# Altium schematic symbol library Radxa ROCK3 CM.SchLib: 1 symbol
Pins are listed as number, name and electrical type; pins without a type are passive.

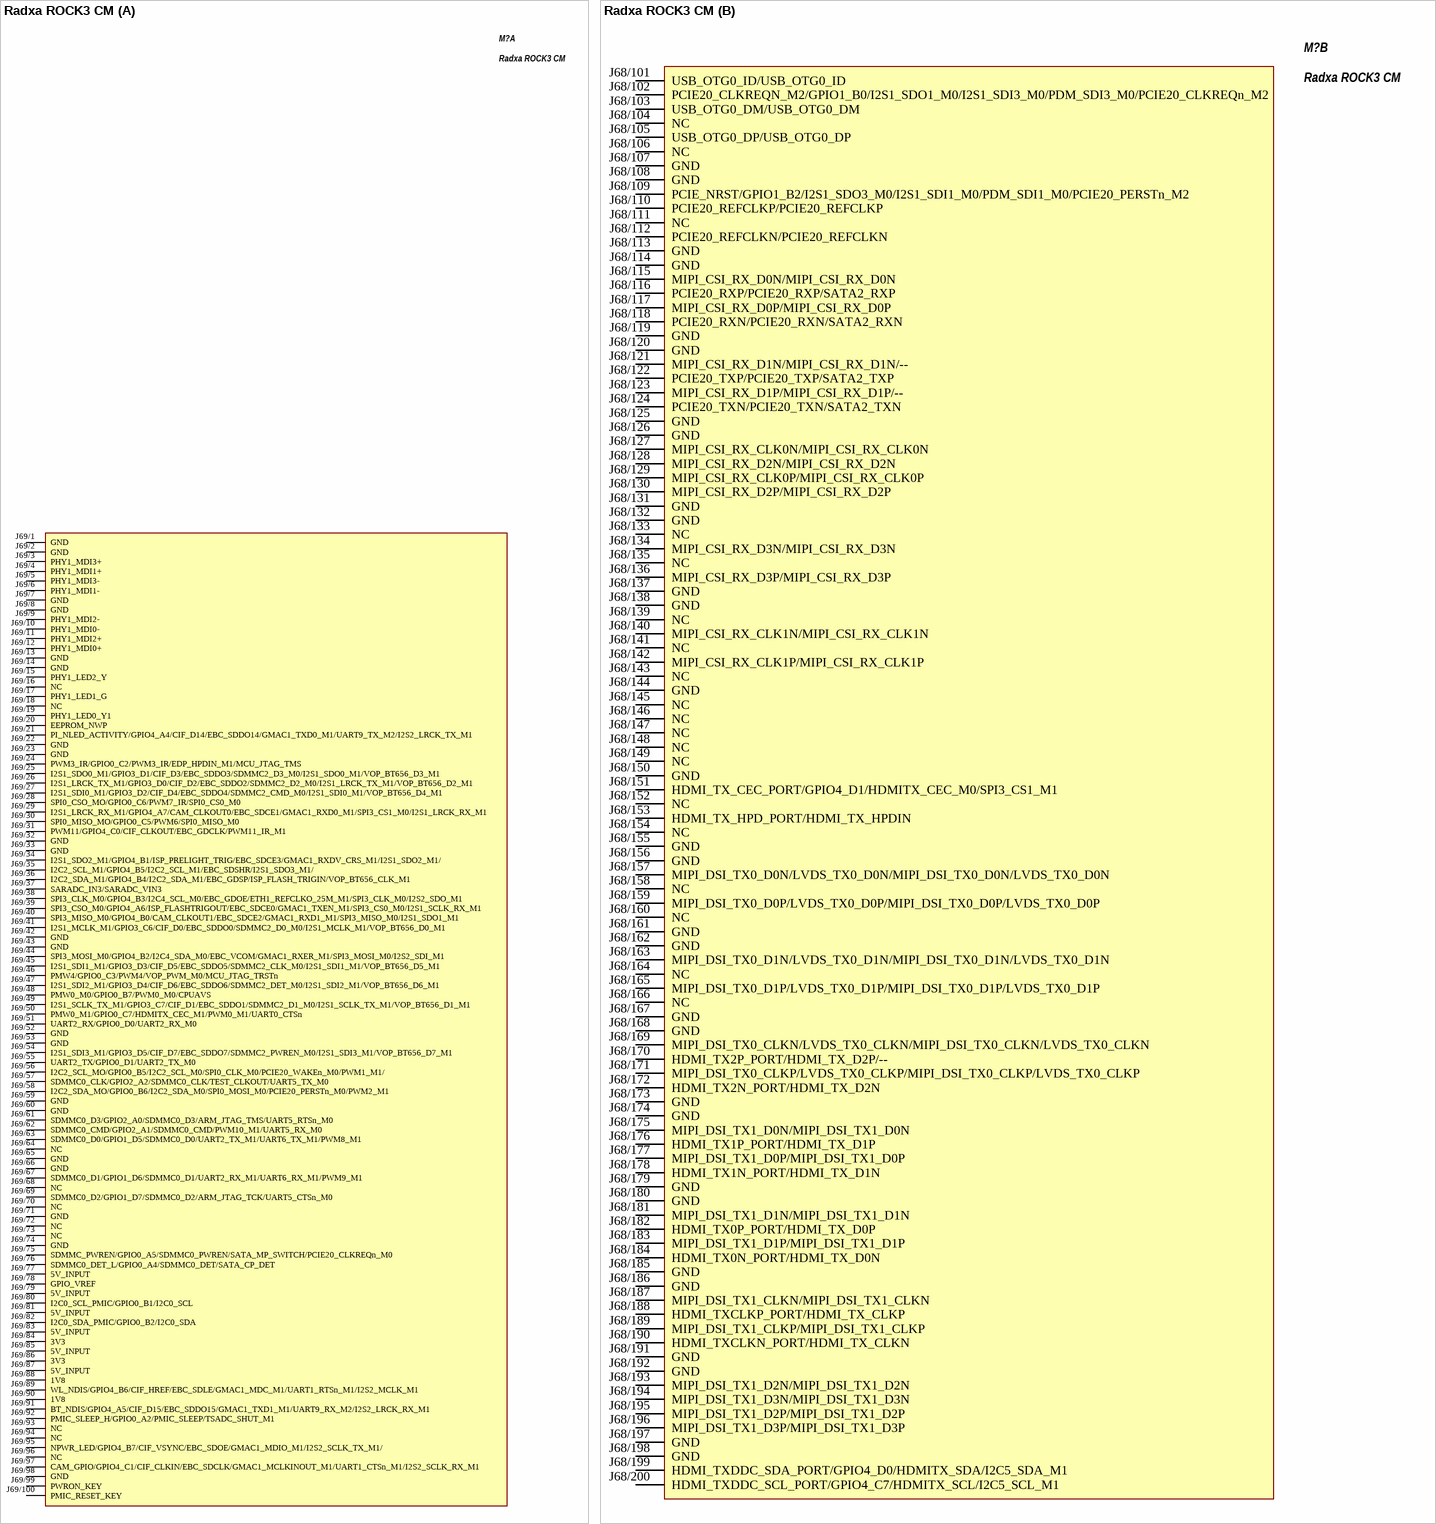
[diagram p0: symbol Radxa ROCK3 CM]

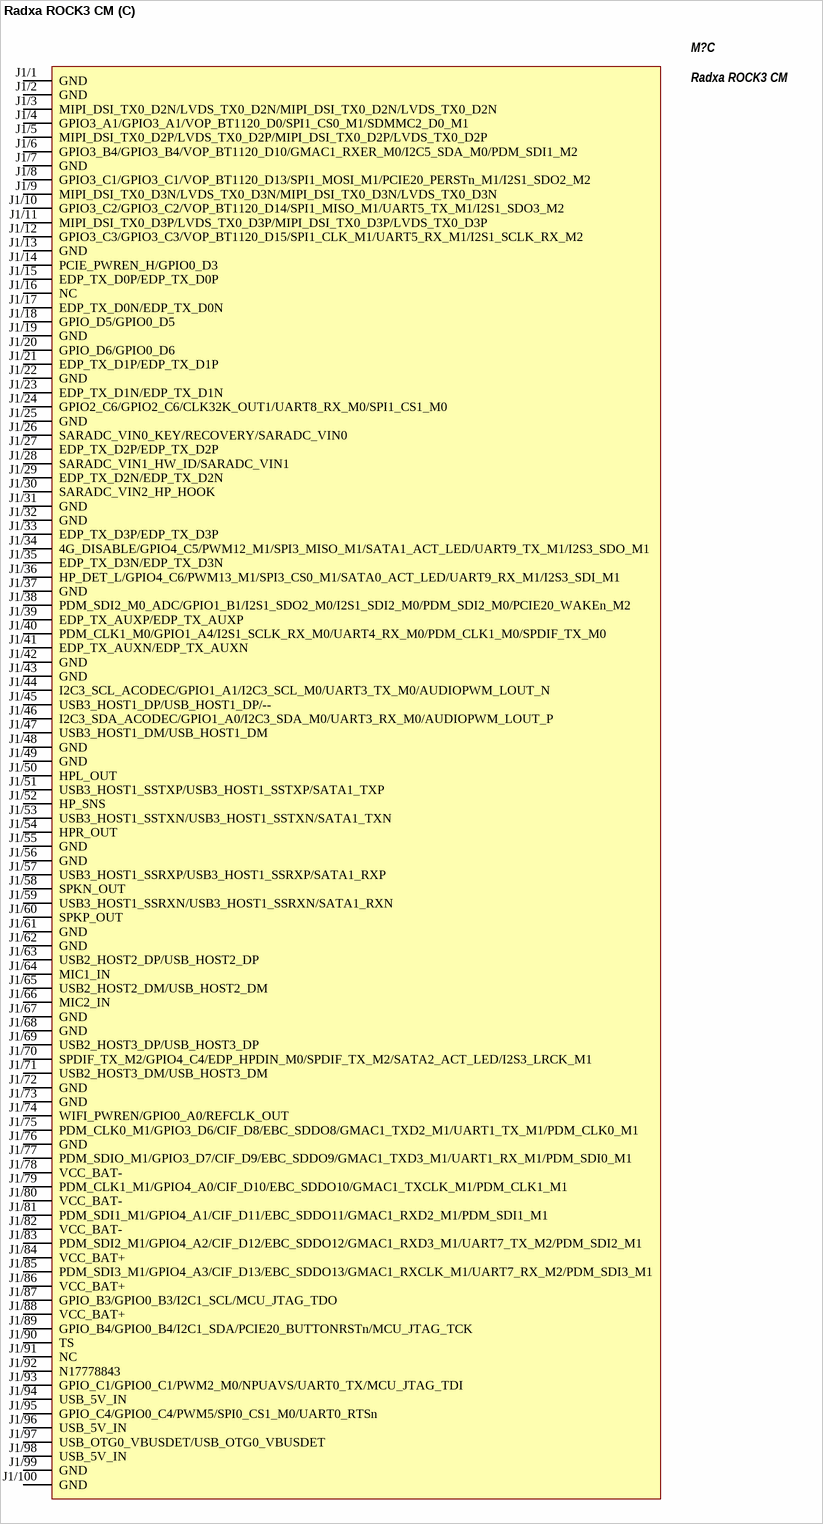
[diagram p1: symbol Radxa ROCK3 CM]

## Radxa ROCK3 CM
designator M?  (mechanical)
part A pins: J69/1 GND, J69/2 GND, J69/3 PHY1_MDI3+, J69/4 PHY1_MDI1+, J69/5 PHY1_MDI3-, J69/6 PHY1_MDI1-, J69/7 GND, J69/8 GND, J69/9 PHY1_MDI2-, J69/10 PHY1_MDI0-, J69/11 PHY1_MDI2+, J69/12 PHY1_MDI0+, J69/13 GND, J69/14 GND, J69/15 PHY1_LED2_Y, J69/16 NC, J69/17 PHY1_LED1_G, J69/18 NC, J69/19 PHY1_LED0_Y1, J69/20 EEPROM_NWP, J69/21 PI_NLED_ACTIVITY/GPIO4_A4/CIF_D14/EBC_SDDO14/GMAC1_TXD0_M1/UART9_TX_M2/I2S2_LRCK_TX_M1, J69/22 GND, J69/23 GND, J69/24 PWM3_IR/GPIO0_C2/PWM3_IR/EDP_HPDIN_M1/MCU_JTAG_TMS, J69/25 I2S1_SDO0_M1/GPIO3_D1/CIF_D3/EBC_SDDO3/SDMMC2_D3_M0/I2S1_SDO0_M1/VOP_BT656_D3_M1, J69/26 I2S1_LRCK_TX_M1/GPIO3_D0/CIF_D2/EBC_SDDO2/SDMMC2_D2_M0/I2S1_LRCK_TX_M1/VOP_BT656_D2_M1, J69/27 I2S1_SDI0_M1/GPIO3_D2/CIF_D4/EBC_SDDO4/SDMMC2_CMD_M0/I2S1_SDI0_M1/VOP_BT656_D4_M1, J69/28 SPI0_CSO_MO/GPIO0_C6/PWM7_IR/SPI0_CS0_M0, J69/29 I2S1_LRCK_RX_M1/GPIO4_A7/CAM_CLKOUT0/EBC_SDCE1/GMAC1_RXD0_M1/SPI3_CS1_M0/I2S1_LRCK_RX_M1, J69/30 SPI0_MISO_MO/GPIO0_C5/PWM6/SPI0_MISO_M0, J69/31 PWM11/GPIO4_C0/CIF_CLKOUT/EBC_GDCLK/PWM11_IR_M1, J69/32 GND, J69/33 GND, J69/34 I2S1_SDO2_M1/GPIO4_B1/ISP_PRELIGHT_TRIG/EBC_SDCE3/GMAC1_RXDV_CRS_M1/I2S1_SDO2_M1/, J69/35 I2C2_SCL_M1/GPIO4_B5/I2C2_SCL_M1/EBC_SDSHR/I2S1_SDO3_M1/, J69/36 I2C2_SDA_M1/GPIO4_B4/I2C2_SDA_M1/EBC_GDSP/ISP_FLASH_TRIGIN/VOP_BT656_CLK_M1, J69/37 SARADC_IN3/SARADC_VIN3, J69/38 SPI3_CLK_M0/GPIO4_B3/I2C4_SCL_M0/EBC_GDOE/ETH1_REFCLKO_25M_M1/SPI3_CLK_M0/I2S2_SDO_M1, J69/39 SPI3_CSO_M0/GPIO4_A6/ISP_FLASHTRIGOUT/EBC_SDCE0/GMAC1_TXEN_M1/SPI3_CS0_M0/I2S1_SCLK_RX_M1, J69/40 SPI3_MISO_M0/GPIO4_B0/CAM_CLKOUT1/EBC_SDCE2/GMAC1_RXD1_M1/SPI3_MISO_M0/I2S1_SDO1_M1, J69/41 I2S1_MCLK_M1/GPIO3_C6/CIF_D0/EBC_SDDO0/SDMMC2_D0_M0/I2S1_MCLK_M1/VOP_BT656_D0_M1, J69/42 GND, J69/43 GND, J69/44 SPI3_MOSI_M0/GPIO4_B2/I2C4_SDA_M0/EBC_VCOM/GMAC1_RXER_M1/SPI3_MOSI_M0/I2S2_SDI_M1, J69/45 I2S1_SDI1_M1/GPIO3_D3/CIF_D5/EBC_SDDO5/SDMMC2_CLK_M0/I2S1_SDI1_M1/VOP_BT656_D5_M1, J69/46 PMW4/GPIO0_C3/PWM4/VOP_PWM_M0/MCU_JTAG_TRSTn, J69/47 I2S1_SDI2_M1/GPIO3_D4/CIF_D6/EBC_SDDO6/SDMMC2_DET_M0/I2S1_SDI2_M1/VOP_BT656_D6_M1, J69/48 PMW0_M0/GPIO0_B7/PWM0_M0/CPUAVS, J69/49 I2S1_SCLK_TX_M1/GPIO3_C7/CIF_D1/EBC_SDDO1/SDMMC2_D1_M0/I2S1_SCLK_TX_M1/VOP_BT656_D1_M1, J69/50 PMW0_M1/GPIO0_C7/HDMITX_CEC_M1/PWM0_M1/UART0_CTSn, J69/51 UART2_RX/GPIO0_D0/UART2_RX_M0, J69/52 GND, J69/53 GND, J69/54 I2S1_SDI3_M1/GPIO3_D5/CIF_D7/EBC_SDDO7/SDMMC2_PWREN_M0/I2S1_SDI3_M1/VOP_BT656_D7_M1, J69/55 UART2_TX/GPIO0_D1/UART2_TX_M0, J69/56 I2C2_SCL_MO/GPIO0_B5/I2C2_SCL_M0/SPI0_CLK_M0/PCIE20_WAKEn_M0/PWM1_M1/, J69/57 SDMMC0_CLK/GPIO2_A2/SDMMC0_CLK/TEST_CLKOUT/UART5_TX_M0, J69/58 I2C2_SDA_MO/GPIO0_B6/I2C2_SDA_M0/SPI0_MOSI_M0/PCIE20_PERSTn_M0/PWM2_M1, J69/59 GND, J69/60 GND, J69/61 SDMMC0_D3/GPIO2_A0/SDMMC0_D3/ARM_JTAG_TMS/UART5_RTSn_M0, J69/62 SDMMC0_CMD/GPIO2_A1/SDMMC0_CMD/PWM10_M1/UART5_RX_M0, J69/63 SDMMC0_D0/GPIO1_D5/SDMMC0_D0/UART2_TX_M1/UART6_TX_M1/PWM8_M1, J69/64 NC, J69/65 GND, J69/66 GND, J69/67 SDMMC0_D1/GPIO1_D6/SDMMC0_D1/UART2_RX_M1/UART6_RX_M1/PWM9_M1, J69/68 NC, J69/69 SDMMC0_D2/GPIO1_D7/SDMMC0_D2/ARM_JTAG_TCK/UART5_CTSn_M0, J69/70 NC, J69/71 GND, J69/72 NC, J69/73 NC, J69/74 GND, J69/75 SDMMC_PWREN/GPIO0_A5/SDMMC0_PWREN/SATA_MP_SWITCH/PCIE20_CLKREQn_M0, J69/76 SDMMC0_DET_L/GPIO0_A4/SDMMC0_DET/SATA_CP_DET, J69/77 5V_INPUT, J69/78 GPIO_VREF, J69/79 5V_INPUT, J69/80 I2C0_SCL_PMIC/GPIO0_B1/I2C0_SCL, J69/81 5V_INPUT, J69/82 I2C0_SDA_PMIC/GPIO0_B2/I2C0_SDA, J69/83 5V_INPUT, J69/84 3V3, J69/85 5V_INPUT, J69/86 3V3, J69/87 5V_INPUT, J69/88 1V8, J69/89 WL_NDIS/GPIO4_B6/CIF_HREF/EBC_SDLE/GMAC1_MDC_M1/UART1_RTSn_M1/I2S2_MCLK_M1, J69/90 1V8, J69/91 BT_NDIS/GPIO4_A5/CIF_D15/EBC_SDDO15/GMAC1_TXD1_M1/UART9_RX_M2/I2S2_LRCK_RX_M1, J69/92 PMIC_SLEEP_H/GPIO0_A2/PMIC_SLEEP/TSADC_SHUT_M1, J69/93 NC, J69/94 NC, J69/95 NPWR_LED/GPIO4_B7/CIF_VSYNC/EBC_SDOE/GMAC1_MDIO_M1/I2S2_SCLK_TX_M1/, J69/96 NC, J69/97 CAM_GPIO/GPIO4_C1/CIF_CLKIN/EBC_SDCLK/GMAC1_MCLKINOUT_M1/UART1_CTSn_M1/I2S2_SCLK_RX_M1, J69/98 GND, J69/99 PWRON_KEY, J69/100 PMIC_RESET_KEY
part B pins: J68/101 USB_OTG0_ID/USB_OTG0_ID, J68/102 PCIE20_CLKREQN_M2/GPIO1_B0/I2S1_SDO1_M0/I2S1_SDI3_M0/PDM_SDI3_M0/PCIE20_CLKREQn_M2, J68/103 USB_OTG0_DM/USB_OTG0_DM, J68/104 NC, J68/105 USB_OTG0_DP/USB_OTG0_DP, J68/106 NC, J68/107 GND, J68/108 GND, J68/109 PCIE_NRST/GPIO1_B2/I2S1_SDO3_M0/I2S1_SDI1_M0/PDM_SDI1_M0/PCIE20_PERSTn_M2, J68/110 PCIE20_REFCLKP/PCIE20_REFCLKP, J68/111 NC, J68/112 PCIE20_REFCLKN/PCIE20_REFCLKN, J68/113 GND, J68/114 GND, J68/115 MIPI_CSI_RX_D0N/MIPI_CSI_RX_D0N, J68/116 PCIE20_RXP/PCIE20_RXP/SATA2_RXP, J68/117 MIPI_CSI_RX_D0P/MIPI_CSI_RX_D0P, J68/118 PCIE20_RXN/PCIE20_RXN/SATA2_RXN, J68/119 GND, J68/120 GND, J68/121 MIPI_CSI_RX_D1N/MIPI_CSI_RX_D1N/--, J68/122 PCIE20_TXP/PCIE20_TXP/SATA2_TXP, J68/123 MIPI_CSI_RX_D1P/MIPI_CSI_RX_D1P/--, J68/124 PCIE20_TXN/PCIE20_TXN/SATA2_TXN, J68/125 GND, J68/126 GND, J68/127 MIPI_CSI_RX_CLK0N/MIPI_CSI_RX_CLK0N, J68/128 MIPI_CSI_RX_D2N/MIPI_CSI_RX_D2N, J68/129 MIPI_CSI_RX_CLK0P/MIPI_CSI_RX_CLK0P, J68/130 MIPI_CSI_RX_D2P/MIPI_CSI_RX_D2P, J68/131 GND, J68/132 GND, J68/133 NC, J68/134 MIPI_CSI_RX_D3N/MIPI_CSI_RX_D3N, J68/135 NC, J68/136 MIPI_CSI_RX_D3P/MIPI_CSI_RX_D3P, J68/137 GND, J68/138 GND, J68/139 NC, J68/140 MIPI_CSI_RX_CLK1N/MIPI_CSI_RX_CLK1N, J68/141 NC, J68/142 MIPI_CSI_RX_CLK1P/MIPI_CSI_RX_CLK1P, J68/143 NC, J68/144 GND, J68/145 NC, J68/146 NC, J68/147 NC, J68/148 NC, J68/149 NC, J68/150 GND, J68/151 HDMI_TX_CEC_PORT/GPIO4_D1/HDMITX_CEC_M0/SPI3_CS1_M1, J68/152 NC, J68/153 HDMI_TX_HPD_PORT/HDMI_TX_HPDIN, J68/154 NC, J68/155 GND, J68/156 GND, J68/157 MIPI_DSI_TX0_D0N/LVDS_TX0_D0N/MIPI_DSI_TX0_D0N/LVDS_TX0_D0N, J68/158 NC, J68/159 MIPI_DSI_TX0_D0P/LVDS_TX0_D0P/MIPI_DSI_TX0_D0P/LVDS_TX0_D0P, J68/160 NC, J68/161 GND, J68/162 GND, J68/163 MIPI_DSI_TX0_D1N/LVDS_TX0_D1N/MIPI_DSI_TX0_D1N/LVDS_TX0_D1N, J68/164 NC, J68/165 MIPI_DSI_TX0_D1P/LVDS_TX0_D1P/MIPI_DSI_TX0_D1P/LVDS_TX0_D1P, J68/166 NC, J68/167 GND, J68/168 GND, J68/169 MIPI_DSI_TX0_CLKN/LVDS_TX0_CLKN/MIPI_DSI_TX0_CLKN/LVDS_TX0_CLKN, J68/170 HDMI_TX2P_PORT/HDMI_TX_D2P/--, J68/171 MIPI_DSI_TX0_CLKP/LVDS_TX0_CLKP/MIPI_DSI_TX0_CLKP/LVDS_TX0_CLKP, J68/172 HDMI_TX2N_PORT/HDMI_TX_D2N, J68/173 GND, J68/174 GND, J68/175 MIPI_DSI_TX1_D0N/MIPI_DSI_TX1_D0N, J68/176 HDMI_TX1P_PORT/HDMI_TX_D1P, J68/177 MIPI_DSI_TX1_D0P/MIPI_DSI_TX1_D0P, J68/178 HDMI_TX1N_PORT/HDMI_TX_D1N, J68/179 GND, J68/180 GND, J68/181 MIPI_DSI_TX1_D1N/MIPI_DSI_TX1_D1N, J68/182 HDMI_TX0P_PORT/HDMI_TX_D0P, J68/183 MIPI_DSI_TX1_D1P/MIPI_DSI_TX1_D1P, J68/184 HDMI_TX0N_PORT/HDMI_TX_D0N, J68/185 GND, J68/186 GND, J68/187 MIPI_DSI_TX1_CLKN/MIPI_DSI_TX1_CLKN, J68/188 HDMI_TXCLKP_PORT/HDMI_TX_CLKP, J68/189 MIPI_DSI_TX1_CLKP/MIPI_DSI_TX1_CLKP, J68/190 HDMI_TXCLKN_PORT/HDMI_TX_CLKN, J68/191 GND, J68/192 GND, J68/193 MIPI_DSI_TX1_D2N/MIPI_DSI_TX1_D2N, J68/194 MIPI_DSI_TX1_D3N/MIPI_DSI_TX1_D3N, J68/195 MIPI_DSI_TX1_D2P/MIPI_DSI_TX1_D2P, J68/196 MIPI_DSI_TX1_D3P/MIPI_DSI_TX1_D3P, J68/197 GND, J68/198 GND, J68/199 HDMI_TXDDC_SDA_PORT/GPIO4_D0/HDMITX_SDA/I2C5_SDA_M1, J68/200 HDMI_TXDDC_SCL_PORT/GPIO4_C7/HDMITX_SCL/I2C5_SCL_M1
part C pins: J1/1 GND, J1/2 GND, J1/3 MIPI_DSI_TX0_D2N/LVDS_TX0_D2N/MIPI_DSI_TX0_D2N/LVDS_TX0_D2N, J1/4 GPIO3_A1/GPIO3_A1/VOP_BT1120_D0/SPI1_CS0_M1/SDMMC2_D0_M1, J1/5 MIPI_DSI_TX0_D2P/LVDS_TX0_D2P/MIPI_DSI_TX0_D2P/LVDS_TX0_D2P, J1/6 GPIO3_B4/GPIO3_B4/VOP_BT1120_D10/GMAC1_RXER_M0/I2C5_SDA_M0/PDM_SDI1_M2, J1/7 GND, J1/8 GPIO3_C1/GPIO3_C1/VOP_BT1120_D13/SPI1_MOSI_M1/PCIE20_PERSTn_M1/I2S1_SDO2_M2, J1/9 MIPI_DSI_TX0_D3N/LVDS_TX0_D3N/MIPI_DSI_TX0_D3N/LVDS_TX0_D3N, J1/10 GPIO3_C2/GPIO3_C2/VOP_BT1120_D14/SPI1_MISO_M1/UART5_TX_M1/I2S1_SDO3_M2, J1/11 MIPI_DSI_TX0_D3P/LVDS_TX0_D3P/MIPI_DSI_TX0_D3P/LVDS_TX0_D3P, J1/12 GPIO3_C3/GPIO3_C3/VOP_BT1120_D15/SPI1_CLK_M1/UART5_RX_M1/I2S1_SCLK_RX_M2, J1/13 GND, J1/14 PCIE_PWREN_H/GPIO0_D3, J1/15 EDP_TX_D0P/EDP_TX_D0P, J1/16 NC, J1/17 EDP_TX_D0N/EDP_TX_D0N, J1/18 GPIO_D5/GPIO0_D5, J1/19 GND, J1/20 GPIO_D6/GPIO0_D6, J1/21 EDP_TX_D1P/EDP_TX_D1P, J1/22 GND, J1/23 EDP_TX_D1N/EDP_TX_D1N, J1/24 GPIO2_C6/GPIO2_C6/CLK32K_OUT1/UART8_RX_M0/SPI1_CS1_M0, J1/25 GND, J1/26 SARADC_VIN0_KEY/RECOVERY/SARADC_VIN0, J1/27 EDP_TX_D2P/EDP_TX_D2P, J1/28 SARADC_VIN1_HW_ID/SARADC_VIN1, J1/29 EDP_TX_D2N/EDP_TX_D2N, J1/30 SARADC_VIN2_HP_HOOK, J1/31 GND, J1/32 GND, J1/33 EDP_TX_D3P/EDP_TX_D3P, J1/34 4G_DISABLE/GPIO4_C5/PWM12_M1/SPI3_MISO_M1/SATA1_ACT_LED/UART9_TX_M1/I2S3_SDO_M1, J1/35 EDP_TX_D3N/EDP_TX_D3N, J1/36 HP_DET_L/GPIO4_C6/PWM13_M1/SPI3_CS0_M1/SATA0_ACT_LED/UART9_RX_M1/I2S3_SDI_M1, J1/37 GND, J1/38 PDM_SDI2_M0_ADC/GPIO1_B1/I2S1_SDO2_M0/I2S1_SDI2_M0/PDM_SDI2_M0/PCIE20_WAKEn_M2, J1/39 EDP_TX_AUXP/EDP_TX_AUXP, J1/40 PDM_CLK1_M0/GPIO1_A4/I2S1_SCLK_RX_M0/UART4_RX_M0/PDM_CLK1_M0/SPDIF_TX_M0, J1/41 EDP_TX_AUXN/EDP_TX_AUXN, J1/42 GND, J1/43 GND, J1/44 I2C3_SCL_ACODEC/GPIO1_A1/I2C3_SCL_M0/UART3_TX_M0/AUDIOPWM_LOUT_N, J1/45 USB3_HOST1_DP/USB_HOST1_DP/--, J1/46 I2C3_SDA_ACODEC/GPIO1_A0/I2C3_SDA_M0/UART3_RX_M0/AUDIOPWM_LOUT_P, J1/47 USB3_HOST1_DM/USB_HOST1_DM, J1/48 GND, J1/49 GND, J1/50 HPL_OUT, J1/51 USB3_HOST1_SSTXP/USB3_HOST1_SSTXP/SATA1_TXP, J1/52 HP_SNS, J1/53 USB3_HOST1_SSTXN/USB3_HOST1_SSTXN/SATA1_TXN, J1/54 HPR_OUT, J1/55 GND, J1/56 GND, J1/57 USB3_HOST1_SSRXP/USB3_HOST1_SSRXP/SATA1_RXP, J1/58 SPKN_OUT, J1/59 USB3_HOST1_SSRXN/USB3_HOST1_SSRXN/SATA1_RXN, J1/60 SPKP_OUT, J1/61 GND, J1/62 GND, J1/63 USB2_HOST2_DP/USB_HOST2_DP, J1/64 MIC1_IN, J1/65 USB2_HOST2_DM/USB_HOST2_DM, J1/66 MIC2_IN, J1/67 GND, J1/68 GND, J1/69 USB2_HOST3_DP/USB_HOST3_DP, J1/70 SPDIF_TX_M2/GPIO4_C4/EDP_HPDIN_M0/SPDIF_TX_M2/SATA2_ACT_LED/I2S3_LRCK_M1, J1/71 USB2_HOST3_DM/USB_HOST3_DM, J1/72 GND, J1/73 GND, J1/74 WIFI_PWREN/GPIO0_A0/REFCLK_OUT, J1/75 PDM_CLK0_M1/GPIO3_D6/CIF_D8/EBC_SDDO8/GMAC1_TXD2_M1/UART1_TX_M1/PDM_CLK0_M1, J1/76 GND, J1/77 PDM_SDIO_M1/GPIO3_D7/CIF_D9/EBC_SDDO9/GMAC1_TXD3_M1/UART1_RX_M1/PDM_SDI0_M1, J1/78 VCC_BAT-, J1/79 PDM_CLK1_M1/GPIO4_A0/CIF_D10/EBC_SDDO10/GMAC1_TXCLK_M1/PDM_CLK1_M1, J1/80 VCC_BAT-, J1/81 PDM_SDI1_M1/GPIO4_A1/CIF_D11/EBC_SDDO11/GMAC1_RXD2_M1/PDM_SDI1_M1, J1/82 VCC_BAT-, J1/83 PDM_SDI2_M1/GPIO4_A2/CIF_D12/EBC_SDDO12/GMAC1_RXD3_M1/UART7_TX_M2/PDM_SDI2_M1, J1/84 VCC_BAT+, J1/85 PDM_SDI3_M1/GPIO4_A3/CIF_D13/EBC_SDDO13/GMAC1_RXCLK_M1/UART7_RX_M2/PDM_SDI3_M1, J1/86 VCC_BAT+, J1/87 GPIO_B3/GPIO0_B3/I2C1_SCL/MCU_JTAG_TDO, J1/88 VCC_BAT+, J1/89 GPIO_B4/GPIO0_B4/I2C1_SDA/PCIE20_BUTTONRSTn/MCU_JTAG_TCK, J1/90 TS, J1/91 NC, J1/92 N17778843, J1/93 GPIO_C1/GPIO0_C1/PWM2_M0/NPUAVS/UART0_TX/MCU_JTAG_TDI, J1/94 USB_5V_IN, J1/95 GPIO_C4/GPIO0_C4/PWM5/SPI0_CS1_M0/UART0_RTSn, J1/96 USB_5V_IN, J1/97 USB_OTG0_VBUSDET/USB_OTG0_VBUSDET, J1/98 USB_5V_IN, J1/99 GND, J1/100 GND